# Altium integrated library National Semiconductor LDO.IntLib: 2675 symbols (part 63 of 65)
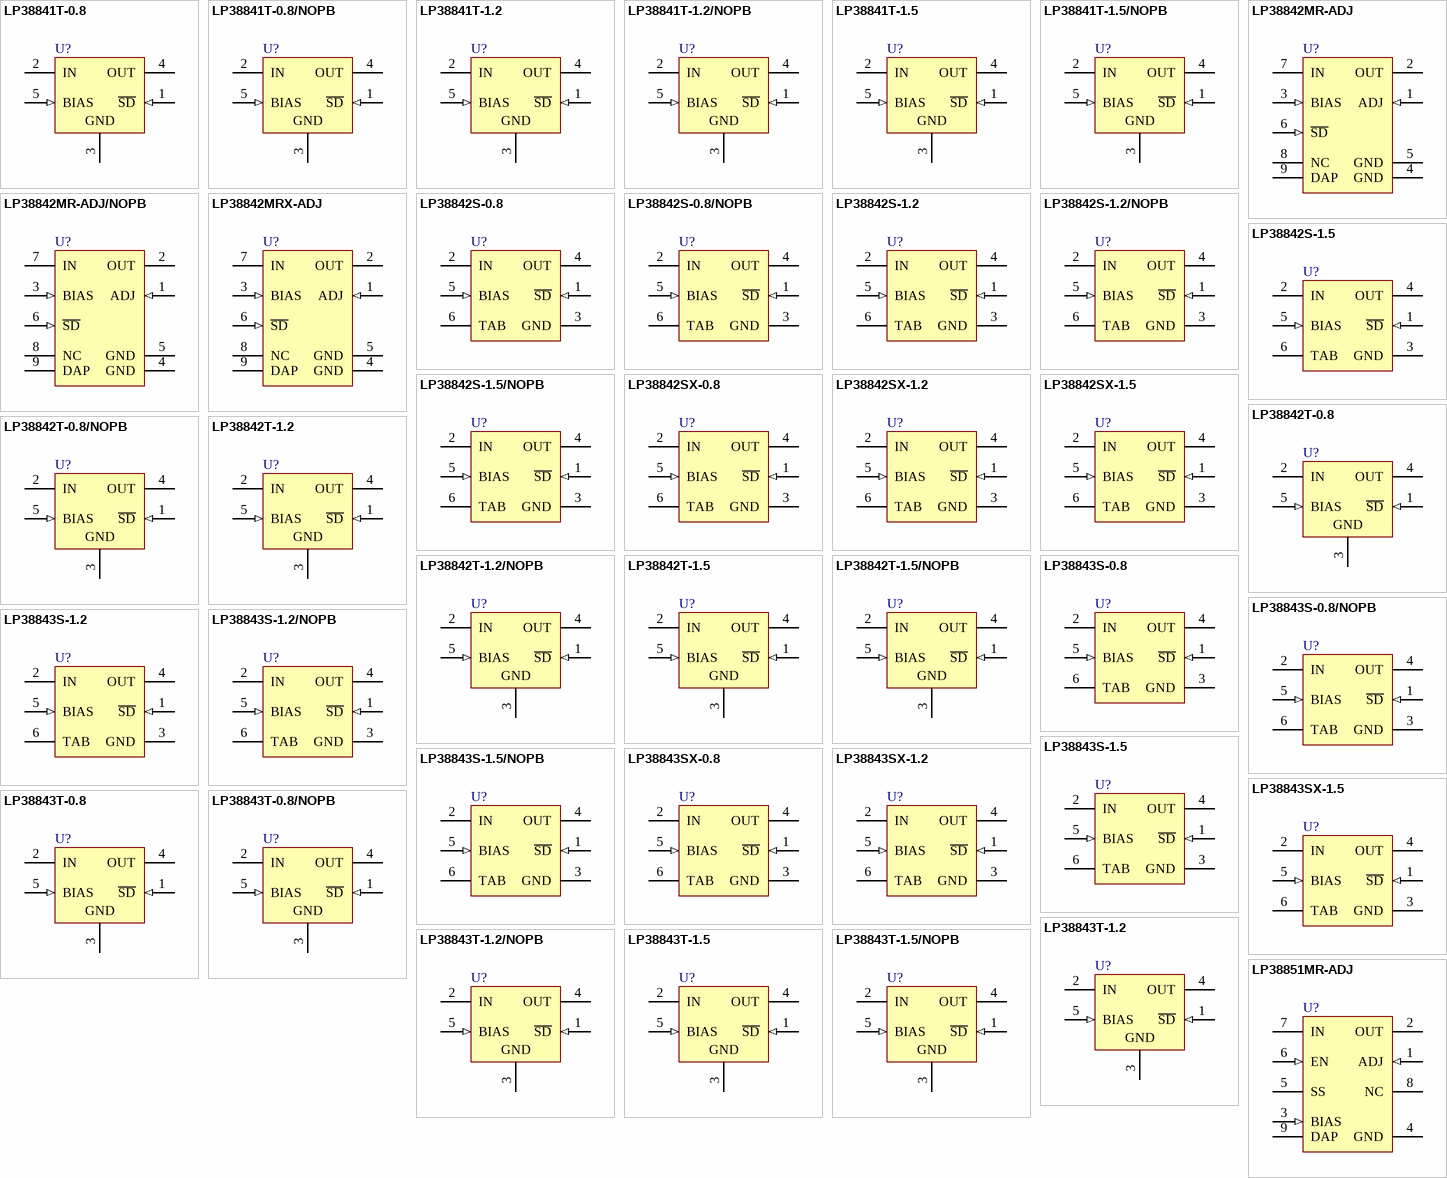
[diagram p129: symbols LP38841T-0.8 to LP38851MR-ADJ]

## LP38843S-1.5
designator U?
3A Fast-Response Ultra Low Dropout Linear Regulators, 5-pin TO-263; PartNumber: LP38843S-1.5; Manufacturer: National Semiconductor; PackageTopMarking: NSUZXYTTE#*LP38843S*-1.5; PowerWise: N; CompType: LDO IC; High-Reliability: Y; DatasheetVersion: Sep-2006; PackageVersion: revD, Apr-2005; PackageReference: TS5B; PackageDescription: TO-263, Molded, .400 x .390 x .180in, 5 Lead, .067in Pitch, Surface Mount; RoHS: N; PinCount: 5; Code_JEDEC: MO-169-AB; ComponentLink1Description: Manufacturer URL; ComponentLink1URL: http://www.national.com/; ComponentLink2Description: LP38843 Datasheet; ComponentLink2URL: http://www.national.com/ds/LP/LP38843.pdf; ComponentLink3Description: LP38843 Web Page; ComponentLink3URL: http://www.national.com/pf/LP/LP38843.html; ComponentLink4Description: TS5B Package Page; ComponentLink4URL: http://www.national.com/packaging/folders/ts5b.html
footprint TS5B_N (D2-PAK, 6-Leads, Body 8.6x10.2mm, Pitch 1.7mm, Lead Span 14.1mm, IPC Medium Density)
footprint TS5B_L (D2-PAK, 6-Leads, Body 8.6x10.2mm, Pitch 1.7mm, Lead Span 14.1mm, IPC High Density)
footprint TS5B_M (D2-PAK, 6-Leads, Body 8.6x10.2mm, Pitch 1.7mm, Lead Span 14.1mm, IPC Low Density)
pins: 1 ~{SD} (in), 2 IN (power), 3 GND (power), 4 OUT (power), 5 BIAS (in), 6 TAB (power)

## LP38843S-1.5/NOPB
designator U?
3A Fast-Response Ultra Low Dropout Linear Regulators, 5-pin TO-263, Pb-Free; PartNumber: LP38843S-1.5/NOPB; Manufacturer: National Semiconductor; PackageTopMarking: NSUZXYTTE#*LP38843S*-1.5; PowerWise: N; CompType: LDO IC; High-Reliability: Y; DatasheetVersion: Sep-2006; PackageVersion: revD, Apr-2005; PackageReference: TS5B; PackageDescription: TO-263, Molded, .400 x .390 x .180in, 5 Lead, .067in Pitch, Surface Mount; RoHS: Y; PinCount: 5; Code_JEDEC: MO-169-AB; ComponentLink1Description: Manufacturer URL; ComponentLink1URL: http://www.national.com/; ComponentLink2Description: LP38843 Datasheet; ComponentLink2URL: http://www.national.com/ds/LP/LP38843.pdf; ComponentLink3Description: LP38843 Web Page; ComponentLink3URL: http://www.national.com/pf/LP/LP38843.html; ComponentLink4Description: TS5B Package Page; ComponentLink4URL: http://www.national.com/packaging/folders/ts5b.html
footprint TS5B_N (D2-PAK, 6-Leads, Body 8.6x10.2mm, Pitch 1.7mm, Lead Span 14.1mm, IPC Medium Density)
footprint TS5B_L (D2-PAK, 6-Leads, Body 8.6x10.2mm, Pitch 1.7mm, Lead Span 14.1mm, IPC High Density)
footprint TS5B_M (D2-PAK, 6-Leads, Body 8.6x10.2mm, Pitch 1.7mm, Lead Span 14.1mm, IPC Low Density)
pins: 1 ~{SD} (in), 2 IN (power), 3 GND (power), 4 OUT (power), 5 BIAS (in), 6 TAB (power)

## LP38843SX-0.8
designator U?
3A Fast-Response Ultra Low Dropout Linear Regulators, 5-pin TO-263; PartNumber: LP38843SX-0.8; Manufacturer: National Semiconductor; PackageTopMarking: NSUZXYTTE#*LP38843S*-0.8; PowerWise: N; CompType: LDO IC; High-Reliability: Y; DatasheetVersion: Sep-2006; PackageVersion: revD, Apr-2005; PackageReference: TS5B; PackageDescription: TO-263, Molded, .400 x .390 x .180in, 5 Lead, .067in Pitch, Surface Mount; RoHS: N; PinCount: 5; Code_JEDEC: MO-169-AB; ComponentLink1Description: Manufacturer URL; ComponentLink1URL: http://www.national.com/; ComponentLink2Description: LP38843 Datasheet; ComponentLink2URL: http://www.national.com/ds/LP/LP38843.pdf; ComponentLink3Description: LP38843 Web Page; ComponentLink3URL: http://www.national.com/pf/LP/LP38843.html; ComponentLink4Description: TS5B Package Page; ComponentLink4URL: http://www.national.com/packaging/folders/ts5b.html
footprint TS5B_N (D2-PAK, 6-Leads, Body 8.6x10.2mm, Pitch 1.7mm, Lead Span 14.1mm, IPC Medium Density)
footprint TS5B_L (D2-PAK, 6-Leads, Body 8.6x10.2mm, Pitch 1.7mm, Lead Span 14.1mm, IPC High Density)
footprint TS5B_M (D2-PAK, 6-Leads, Body 8.6x10.2mm, Pitch 1.7mm, Lead Span 14.1mm, IPC Low Density)
pins: 1 ~{SD} (in), 2 IN (power), 3 GND (power), 4 OUT (power), 5 BIAS (in), 6 TAB (power)

## LP38843SX-1.2
designator U?
3A Fast-Response Ultra Low Dropout Linear Regulators, 5-pin TO-263; PartNumber: LP38843SX-1.2; Manufacturer: National Semiconductor; PackageTopMarking: NSUZXYTTE#*LP38843S*-1.2; PowerWise: N; CompType: LDO IC; High-Reliability: Y; DatasheetVersion: Sep-2006; PackageVersion: revD, Apr-2005; PackageReference: TS5B; PackageDescription: TO-263, Molded, .400 x .390 x .180in, 5 Lead, .067in Pitch, Surface Mount; RoHS: N; PinCount: 5; Code_JEDEC: MO-169-AB; ComponentLink1Description: Manufacturer URL; ComponentLink1URL: http://www.national.com/; ComponentLink2Description: LP38843 Datasheet; ComponentLink2URL: http://www.national.com/ds/LP/LP38843.pdf; ComponentLink3Description: LP38843 Web Page; ComponentLink3URL: http://www.national.com/pf/LP/LP38843.html; ComponentLink4Description: TS5B Package Page; ComponentLink4URL: http://www.national.com/packaging/folders/ts5b.html
footprint TS5B_N (D2-PAK, 6-Leads, Body 8.6x10.2mm, Pitch 1.7mm, Lead Span 14.1mm, IPC Medium Density)
footprint TS5B_L (D2-PAK, 6-Leads, Body 8.6x10.2mm, Pitch 1.7mm, Lead Span 14.1mm, IPC High Density)
footprint TS5B_M (D2-PAK, 6-Leads, Body 8.6x10.2mm, Pitch 1.7mm, Lead Span 14.1mm, IPC Low Density)
pins: 1 ~{SD} (in), 2 IN (power), 3 GND (power), 4 OUT (power), 5 BIAS (in), 6 TAB (power)

## LP38843SX-1.5
designator U?
3A Fast-Response Ultra Low Dropout Linear Regulators, 5-pin TO-263; PartNumber: LP38843SX-1.5; Manufacturer: National Semiconductor; PackageTopMarking: NSUZXYTTE#*LP38843S*-1.5; PowerWise: N; CompType: LDO IC; High-Reliability: Y; DatasheetVersion: Sep-2006; PackageVersion: revD, Apr-2005; PackageReference: TS5B; PackageDescription: TO-263, Molded, .400 x .390 x .180in, 5 Lead, .067in Pitch, Surface Mount; RoHS: N; PinCount: 5; Code_JEDEC: MO-169-AB; ComponentLink1Description: Manufacturer URL; ComponentLink1URL: http://www.national.com/; ComponentLink2Description: LP38843 Datasheet; ComponentLink2URL: http://www.national.com/ds/LP/LP38843.pdf; ComponentLink3Description: LP38843 Web Page; ComponentLink3URL: http://www.national.com/pf/LP/LP38843.html; ComponentLink4Description: TS5B Package Page; ComponentLink4URL: http://www.national.com/packaging/folders/ts5b.html
footprint TS5B_N (D2-PAK, 6-Leads, Body 8.6x10.2mm, Pitch 1.7mm, Lead Span 14.1mm, IPC Medium Density)
footprint TS5B_L (D2-PAK, 6-Leads, Body 8.6x10.2mm, Pitch 1.7mm, Lead Span 14.1mm, IPC High Density)
footprint TS5B_M (D2-PAK, 6-Leads, Body 8.6x10.2mm, Pitch 1.7mm, Lead Span 14.1mm, IPC Low Density)
pins: 1 ~{SD} (in), 2 IN (power), 3 GND (power), 4 OUT (power), 5 BIAS (in), 6 TAB (power)

## LP38843T-0.8
designator U?
3A Fast-Response Ultra Low Dropout Linear Regulators, 5-pin TO-220; PartNumber: LP38843T-0.8; Manufacturer: National Semiconductor; PackageTopMarking: NSUZXYTTE#*LP38843T*-0.8; PowerWise: N; CompType: LDO IC; High-Reliability: Y; DatasheetVersion: Sep-2006; PackageVersion: revJ, Jan-1992; PackageReference: T05A; PackageDescription: TO-220, Molded, 5 Lead, Straight; RoHS: N; PinCount: 5; Code_JEDEC: TO-220-AB; ComponentLink1Description: Manufacturer URL; ComponentLink1URL: http://www.national.com/; ComponentLink2Description: LP38843 Datasheet; ComponentLink2URL: http://www.national.com/ds/LP/LP38843.pdf; ComponentLink3Description: LP38843 Web Page; ComponentLink3URL: http://www.national.com/pf/LP/LP38843.html; ComponentLink4Description: T05A Package Page; ComponentLink4URL: http://www.national.com/packaging/folders/t05a.html
footprint T05A (TO, Thru-Hole, Vertical, Heatsink Mounted; 5 In-Line Leads; Pitch 1.70 mm)
pins: 1 ~{SD} (in), 2 IN (power), 3 GND (power), 4 OUT (power), 5 BIAS (in)

## LP38843T-0.8/NOPB
designator U?
3A Fast-Response Ultra Low Dropout Linear Regulators, 5-pin TO-220, Pb-Free; PartNumber: LP38843T-0.8/NOPB; Manufacturer: National Semiconductor; PackageTopMarking: NSUZXYTTE#*LP38843T*-0.8; PowerWise: N; CompType: LDO IC; High-Reliability: Y; DatasheetVersion: Sep-2006; PackageVersion: revJ, Jan-1992; PackageReference: T05A; PackageDescription: TO-220, Molded, 5 Lead, Straight; RoHS: Y; PinCount: 5; Code_JEDEC: TO-220-AB; ComponentLink1Description: Manufacturer URL; ComponentLink1URL: http://www.national.com/; ComponentLink2Description: LP38843 Datasheet; ComponentLink2URL: http://www.national.com/ds/LP/LP38843.pdf; ComponentLink3Description: LP38843 Web Page; ComponentLink3URL: http://www.national.com/pf/LP/LP38843.html; ComponentLink4Description: T05A Package Page; ComponentLink4URL: http://www.national.com/packaging/folders/t05a.html
footprint T05A (TO, Thru-Hole, Vertical, Heatsink Mounted; 5 In-Line Leads; Pitch 1.70 mm)
pins: 1 ~{SD} (in), 2 IN (power), 3 GND (power), 4 OUT (power), 5 BIAS (in)

## LP38843T-1.2
designator U?
3A Fast-Response Ultra Low Dropout Linear Regulators, 5-pin TO-220; PartNumber: LP38843T-1.2; Manufacturer: National Semiconductor; PackageTopMarking: NSUZXYTTE#*LP38843T*-1.2; PowerWise: N; CompType: LDO IC; High-Reliability: Y; DatasheetVersion: Sep-2006; PackageVersion: revJ, Jan-1992; PackageReference: T05A; PackageDescription: TO-220, Molded, 5 Lead, Straight; RoHS: N; PinCount: 5; Code_JEDEC: TO-220-AB; ComponentLink1Description: Manufacturer URL; ComponentLink1URL: http://www.national.com/; ComponentLink2Description: LP38843 Datasheet; ComponentLink2URL: http://www.national.com/ds/LP/LP38843.pdf; ComponentLink3Description: LP38843 Web Page; ComponentLink3URL: http://www.national.com/pf/LP/LP38843.html; ComponentLink4Description: T05A Package Page; ComponentLink4URL: http://www.national.com/packaging/folders/t05a.html
footprint T05A (TO, Thru-Hole, Vertical, Heatsink Mounted; 5 In-Line Leads; Pitch 1.70 mm)
pins: 1 ~{SD} (in), 2 IN (power), 3 GND (power), 4 OUT (power), 5 BIAS (in)

## LP38843T-1.2/NOPB
designator U?
3A Fast-Response Ultra Low Dropout Linear Regulators, 5-pin TO-220, Pb-Free; PartNumber: LP38843T-1.2/NOPB; Manufacturer: National Semiconductor; PackageTopMarking: NSUZXYTTE#*LP38843T*-1.2; PowerWise: N; CompType: LDO IC; High-Reliability: Y; DatasheetVersion: Sep-2006; PackageVersion: revJ, Jan-1992; PackageReference: T05A; PackageDescription: TO-220, Molded, 5 Lead, Straight; RoHS: Y; PinCount: 5; Code_JEDEC: TO-220-AB; ComponentLink1Description: Manufacturer URL; ComponentLink1URL: http://www.national.com/; ComponentLink2Description: LP38843 Datasheet; ComponentLink2URL: http://www.national.com/ds/LP/LP38843.pdf; ComponentLink3Description: LP38843 Web Page; ComponentLink3URL: http://www.national.com/pf/LP/LP38843.html; ComponentLink4Description: T05A Package Page; ComponentLink4URL: http://www.national.com/packaging/folders/t05a.html
footprint T05A (TO, Thru-Hole, Vertical, Heatsink Mounted; 5 In-Line Leads; Pitch 1.70 mm)
pins: 1 ~{SD} (in), 2 IN (power), 3 GND (power), 4 OUT (power), 5 BIAS (in)

## LP38843T-1.5
designator U?
3A Fast-Response Ultra Low Dropout Linear Regulators, 5-pin TO-220; PartNumber: LP38843T-1.5; Manufacturer: National Semiconductor; PackageTopMarking: NSUZXYTTE#*LP38843T*-1.5; PowerWise: N; CompType: LDO IC; High-Reliability: Y; DatasheetVersion: Sep-2006; PackageVersion: revJ, Jan-1992; PackageReference: T05A; PackageDescription: TO-220, Molded, 5 Lead, Straight; RoHS: N; PinCount: 5; Code_JEDEC: TO-220-AB; ComponentLink1Description: Manufacturer URL; ComponentLink1URL: http://www.national.com/; ComponentLink2Description: LP38843 Datasheet; ComponentLink2URL: http://www.national.com/ds/LP/LP38843.pdf; ComponentLink3Description: LP38843 Web Page; ComponentLink3URL: http://www.national.com/pf/LP/LP38843.html; ComponentLink4Description: T05A Package Page; ComponentLink4URL: http://www.national.com/packaging/folders/t05a.html
footprint T05A (TO, Thru-Hole, Vertical, Heatsink Mounted; 5 In-Line Leads; Pitch 1.70 mm)
pins: 1 ~{SD} (in), 2 IN (power), 3 GND (power), 4 OUT (power), 5 BIAS (in)

## LP38843T-1.5/NOPB
designator U?
3A Fast-Response Ultra Low Dropout Linear Regulators, 5-pin TO-220, Pb-Free; PartNumber: LP38843T-1.5/NOPB; Manufacturer: National Semiconductor; PackageTopMarking: NSUZXYTTE#*LP38843T*-1.5; PowerWise: N; CompType: LDO IC; High-Reliability: Y; DatasheetVersion: Sep-2006; PackageVersion: revJ, Jan-1992; PackageReference: T05A; PackageDescription: TO-220, Molded, 5 Lead, Straight; RoHS: Y; PinCount: 5; Code_JEDEC: TO-220-AB; ComponentLink1Description: Manufacturer URL; ComponentLink1URL: http://www.national.com/; ComponentLink2Description: LP38843 Datasheet; ComponentLink2URL: http://www.national.com/ds/LP/LP38843.pdf; ComponentLink3Description: LP38843 Web Page; ComponentLink3URL: http://www.national.com/pf/LP/LP38843.html; ComponentLink4Description: T05A Package Page; ComponentLink4URL: http://www.national.com/packaging/folders/t05a.html
footprint T05A (TO, Thru-Hole, Vertical, Heatsink Mounted; 5 In-Line Leads; Pitch 1.70 mm)
pins: 1 ~{SD} (in), 2 IN (power), 3 GND (power), 4 OUT (power), 5 BIAS (in)

## LP38851MR-ADJ
designator U?
800 mA Fast-Response High-Accuracy Adjustable LDO Linear Regulator with Enable and Soft-Start, 8-pin PSOP; PartNumber: LP38851MR-ADJ; Manufacturer: National Semiconductor; PackageTopMarking: NSXYTT*L38851*MRADJ; PowerWise: Y; CompType: LDO IC; DatasheetVersion: Jun-2007; PackageVersion: revB, Dec-2007; PackageReference: MRA08B; PackageDescription: Molded, PSOP .193 x .154 x .058in, 8 Lead, .050in Pitch, Large DAP; RoHS: Y; PinCount: 8; High-Reliability: Y; Code_JEDEC: MS-012-AA; ComponentLink1Description: Manufacturer URL; ComponentLink1URL: http://www.national.com/; ComponentLink2Description: LP38851 Datasheet; ComponentLink2URL: http://www.national.com/ds/LP/LP38851.pdf; ComponentLink3Description: LP38851 Web Page; ComponentLink3URL: http://www.national.com/pf/LP/LP38851.html; ComponentLink4Description: MRA08B Package Page; ComponentLink4URL: http://www.national.com/packaging/folders/mra08b.html
footprint MRA08B_N (SOIC, 8-Leads, Body 4.9x3.9mm, Pitch 1.27mm, Thermal Pad, IPC Medium Density)
footprint MRA08B_L (SOIC, 8-Leads, Body 4.9x3.9mm, Pitch 1.27mm, Thermal Pad, IPC High Density)
footprint MRA08B_M (SOIC, 8-Leads, Body 4.9x3.9mm, Pitch 1.27mm, Thermal Pad, IPC Low Density)
pins: 1 ADJ (in), 2 OUT (power), 3 BIAS (in), 4 GND (power), 5 SS, 6 EN (in), 7 IN (power), 8 NC, 9 DAP (power)

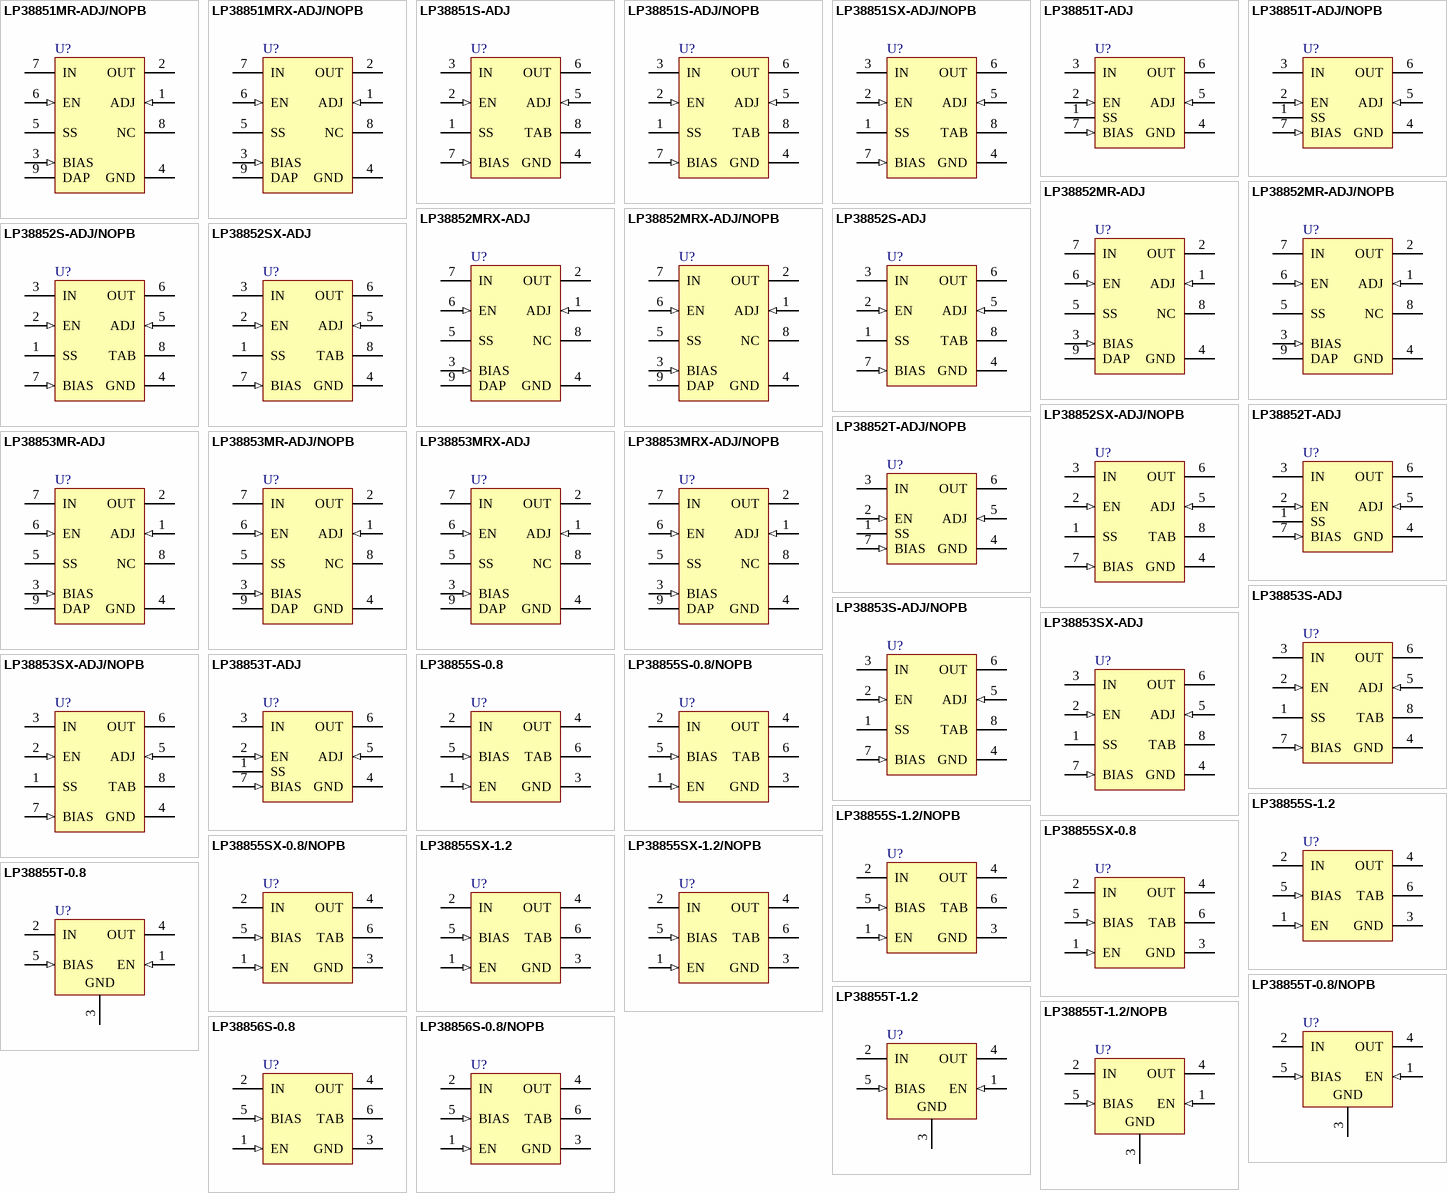
[diagram p65: symbols LP38851MR-ADJ/NOPB to LP38856S-0.8/NOPB]

## LP38851MR-ADJ/NOPB
designator U?
800 mA Fast-Response High-Accuracy Adjustable LDO Linear Regulator with Enable and Soft-Start, 8-pin PSOP, Pb-Free; PartNumber: LP38851MR-ADJ/NOPB; Manufacturer: National Semiconductor; PackageTopMarking: NSXYTT*L38851*MRADJ; PowerWise: Y; CompType: LDO IC; DatasheetVersion: Jun-2007; PackageVersion: revB, Dec-2007; PackageReference: MRA08B; PackageDescription: Molded, PSOP .193 x .154 x .058in, 8 Lead, .050in Pitch, Large DAP; RoHS: Y; PinCount: 8; High-Reliability: Y; Code_JEDEC: MS-012-AA; ComponentLink1Description: Manufacturer URL; ComponentLink1URL: http://www.national.com/; ComponentLink2Description: LP38851 Datasheet; ComponentLink2URL: http://www.national.com/ds/LP/LP38851.pdf; ComponentLink3Description: LP38851 Web Page; ComponentLink3URL: http://www.national.com/pf/LP/LP38851.html; ComponentLink4Description: MRA08B Package Page; ComponentLink4URL: http://www.national.com/packaging/folders/mra08b.html
footprint MRA08B_N (SOIC, 8-Leads, Body 4.9x3.9mm, Pitch 1.27mm, Thermal Pad, IPC Medium Density)
footprint MRA08B_L (SOIC, 8-Leads, Body 4.9x3.9mm, Pitch 1.27mm, Thermal Pad, IPC High Density)
footprint MRA08B_M (SOIC, 8-Leads, Body 4.9x3.9mm, Pitch 1.27mm, Thermal Pad, IPC Low Density)
pins: 1 ADJ (in), 2 OUT (power), 3 BIAS (in), 4 GND (power), 5 SS, 6 EN (in), 7 IN (power), 8 NC, 9 DAP (power)

## LP38851MRX-ADJ/NOPB
designator U?
800 mA Fast-Response High-Accuracy Adjustable LDO Linear Regulator with Enable and Soft-Start, 8-pin PSOP, Pb-Free; PartNumber: LP38851MRX-ADJ/NOPB; Manufacturer: National Semiconductor; PackageTopMarking: NSXYTT*L38851*MRADJ; PowerWise: Y; CompType: LDO IC; DatasheetVersion: Jun-2007; PackageVersion: revB, Dec-2007; PackageReference: MRA08B; PackageDescription: Molded, PSOP .193 x .154 x .058in, 8 Lead, .050in Pitch, Large DAP; RoHS: Y; PinCount: 8; High-Reliability: Y; Code_JEDEC: MS-012-AA; ComponentLink1Description: Manufacturer URL; ComponentLink1URL: http://www.national.com/; ComponentLink2Description: LP38851 Datasheet; ComponentLink2URL: http://www.national.com/ds/LP/LP38851.pdf; ComponentLink3Description: LP38851 Web Page; ComponentLink3URL: http://www.national.com/pf/LP/LP38851.html; ComponentLink4Description: MRA08B Package Page; ComponentLink4URL: http://www.national.com/packaging/folders/mra08b.html
footprint MRA08B_N (SOIC, 8-Leads, Body 4.9x3.9mm, Pitch 1.27mm, Thermal Pad, IPC Medium Density)
footprint MRA08B_L (SOIC, 8-Leads, Body 4.9x3.9mm, Pitch 1.27mm, Thermal Pad, IPC High Density)
footprint MRA08B_M (SOIC, 8-Leads, Body 4.9x3.9mm, Pitch 1.27mm, Thermal Pad, IPC Low Density)
pins: 1 ADJ (in), 2 OUT (power), 3 BIAS (in), 4 GND (power), 5 SS, 6 EN (in), 7 IN (power), 8 NC, 9 DAP (power)

## LP38851S-ADJ
designator U?
800 mA Fast-Response High-Accuracy Adjustable LDO Linear Regulator with Enable and Soft-Start, 7-pin TO-263; PartNumber: LP38851S-ADJ; Manufacturer: National Semiconductor; PackageTopMarking: NSUZXYTTE#*LP38851S*-ADJ; PowerWise: Y; CompType: LDO IC; DatasheetVersion: Jun-2007; PackageVersion: revE, Jul-2003; PackageReference: TS7B; PackageDescription: TO-263, Molded, .400 x .390 x .180in Body, 7 Lead, .050in Pitch, Surface Mount; RoHS: Y; PinCount: 7; High-Reliability: Y; Code_JEDEC: MO-169-AC; ComponentLink1Description: Manufacturer URL; ComponentLink1URL: http://www.national.com/; ComponentLink2Description: LP38851 Datasheet; ComponentLink2URL: http://www.national.com/ds/LP/LP38851.pdf; ComponentLink3Description: LP38851 Web Page; ComponentLink3URL: http://www.national.com/pf/LP/LP38851.html; ComponentLink4Description: TS7B Package Page; ComponentLink4URL: http://www.national.com/packaging/folders/ts7b.html
footprint TS7B_N (D2-PAK, 8-Leads, Body 8.6x10.2mm, Pitch 1.27mm, Lead Span 14.1mm, IPC Medium Density)
footprint TS7B_L (D2-PAK, 8-Leads, Body 8.6x10.2mm, Pitch 1.27mm, Lead Span 14.1mm, IPC High Density)
footprint TS7B_M (D2-PAK, 8-Leads, Body 8.6x10.2mm, Pitch 1.27mm, Lead Span 14.1mm, IPC Low Density)
pins: 1 SS, 2 EN (in), 3 IN (power), 4 GND (power), 5 ADJ (in), 6 OUT (power), 7 BIAS (in), 8 TAB (power)

## LP38851S-ADJ/NOPB
designator U?
800 mA Fast-Response High-Accuracy Adjustable LDO Linear Regulator with Enable and Soft-Start, 7-pin TO-263, Pb-Free; PartNumber: LP38851S-ADJ/NOPB; Manufacturer: National Semiconductor; PackageTopMarking: NSUZXYTTE#*LP38851S*-ADJ; PowerWise: Y; CompType: LDO IC; DatasheetVersion: Jun-2007; PackageVersion: revE, Jul-2003; PackageReference: TS7B; PackageDescription: TO-263, Molded, .400 x .390 x .180in Body, 7 Lead, .050in Pitch, Surface Mount; RoHS: Y; PinCount: 7; High-Reliability: Y; Code_JEDEC: MO-169-AC; ComponentLink1Description: Manufacturer URL; ComponentLink1URL: http://www.national.com/; ComponentLink2Description: LP38851 Datasheet; ComponentLink2URL: http://www.national.com/ds/LP/LP38851.pdf; ComponentLink3Description: LP38851 Web Page; ComponentLink3URL: http://www.national.com/pf/LP/LP38851.html; ComponentLink4Description: TS7B Package Page; ComponentLink4URL: http://www.national.com/packaging/folders/ts7b.html
footprint TS7B_N (D2-PAK, 8-Leads, Body 8.6x10.2mm, Pitch 1.27mm, Lead Span 14.1mm, IPC Medium Density)
footprint TS7B_L (D2-PAK, 8-Leads, Body 8.6x10.2mm, Pitch 1.27mm, Lead Span 14.1mm, IPC High Density)
footprint TS7B_M (D2-PAK, 8-Leads, Body 8.6x10.2mm, Pitch 1.27mm, Lead Span 14.1mm, IPC Low Density)
pins: 1 SS, 2 EN (in), 3 IN (power), 4 GND (power), 5 ADJ (in), 6 OUT (power), 7 BIAS (in), 8 TAB (power)

## LP38851SX-ADJ/NOPB
designator U?
800 mA Fast-Response High-Accuracy Adjustable LDO Linear Regulator with Enable and Soft-Start, 7-pin TO-263, Pb-Free; PartNumber: LP38851SX-ADJ/NOPB; Manufacturer: National Semiconductor; PackageTopMarking: NSUZXYTTE#*LP38851S*-ADJ; PowerWise: Y; CompType: LDO IC; DatasheetVersion: Jun-2007; PackageVersion: revE, Jul-2003; PackageReference: TS7B; PackageDescription: TO-263, Molded, .400 x .390 x .180in Body, 7 Lead, .050in Pitch, Surface Mount; RoHS: Y; PinCount: 7; High-Reliability: Y; Code_JEDEC: MO-169-AC; ComponentLink1Description: Manufacturer URL; ComponentLink1URL: http://www.national.com/; ComponentLink2Description: LP38851 Datasheet; ComponentLink2URL: http://www.national.com/ds/LP/LP38851.pdf; ComponentLink3Description: LP38851 Web Page; ComponentLink3URL: http://www.national.com/pf/LP/LP38851.html; ComponentLink4Description: TS7B Package Page; ComponentLink4URL: http://www.national.com/packaging/folders/ts7b.html
footprint TS7B_N (D2-PAK, 8-Leads, Body 8.6x10.2mm, Pitch 1.27mm, Lead Span 14.1mm, IPC Medium Density)
footprint TS7B_L (D2-PAK, 8-Leads, Body 8.6x10.2mm, Pitch 1.27mm, Lead Span 14.1mm, IPC High Density)
footprint TS7B_M (D2-PAK, 8-Leads, Body 8.6x10.2mm, Pitch 1.27mm, Lead Span 14.1mm, IPC Low Density)
pins: 1 SS, 2 EN (in), 3 IN (power), 4 GND (power), 5 ADJ (in), 6 OUT (power), 7 BIAS (in), 8 TAB (power)

## LP38851T-ADJ
designator U?
800 mA Fast-Response High-Accuracy Adjustable LDO Linear Regulator with Enable and Soft-Start, 7-pin TO-220; PartNumber: LP38851T-ADJ; Manufacturer: National Semiconductor; PackageTopMarking: NSUZXYTTE#*LP38851T*-ADJ; PowerWise: Y; CompType: LDO IC; DatasheetVersion: Jun-2007; PackageVersion: revC, Apr-1999; PackageReference: TA07B; PackageDescription: TO-220, Molded, .400 x .590 x .180in Body, 7 Lead, .050in Pitch, Staggered; RoHS: Y; PinCount: 7; High-Reliability: Y; Code_JEDEC: TO-220-AB; ComponentLink1Description: Manufacturer URL; ComponentLink1URL: http://www.national.com/; ComponentLink2Description: LP38851 Datasheet; ComponentLink2URL: http://www.national.com/ds/LP/LP38851.pdf; ComponentLink3Description: LP38851 Web Page; ComponentLink3URL: http://www.national.com/pf/LP/LP38851.html; ComponentLink4Description: TA07B Package Page; ComponentLink4URL: http://www.national.com/packaging/folders/ta07b.html
footprint TA07B (TO, Thru-Hole, Vertical, Heatsink Mounted; 7 Bent Staggered Leads; Body 10.2x8.7x4.6mm, Pitch 1.27 mm)
pins: 1 SS, 2 EN (in), 3 IN (power), 4 GND (power), 5 ADJ (in), 6 OUT (power), 7 BIAS (in)

## LP38851T-ADJ/NOPB
designator U?
800 mA Fast-Response High-Accuracy Adjustable LDO Linear Regulator with Enable and Soft-Start, 7-pin TO-220, Pb-Free; PartNumber: LP38851T-ADJ/NOPB; Manufacturer: National Semiconductor; PackageTopMarking: NSUZXYTTE#*LP38851T*-ADJ; PowerWise: Y; CompType: LDO IC; DatasheetVersion: Jun-2007; PackageVersion: revC, Apr-1999; PackageReference: TA07B; PackageDescription: TO-220, Molded, .400 x .590 x .180in Body, 7 Lead, .050in Pitch, Staggered; RoHS: Y; PinCount: 7; High-Reliability: Y; Code_JEDEC: TO-220-AB; ComponentLink1Description: Manufacturer URL; ComponentLink1URL: http://www.national.com/; ComponentLink2Description: LP38851 Datasheet; ComponentLink2URL: http://www.national.com/ds/LP/LP38851.pdf; ComponentLink3Description: LP38851 Web Page; ComponentLink3URL: http://www.national.com/pf/LP/LP38851.html; ComponentLink4Description: TA07B Package Page; ComponentLink4URL: http://www.national.com/packaging/folders/ta07b.html
footprint TA07B (TO, Thru-Hole, Vertical, Heatsink Mounted; 7 Bent Staggered Leads; Body 10.2x8.7x4.6mm, Pitch 1.27 mm)
pins: 1 SS, 2 EN (in), 3 IN (power), 4 GND (power), 5 ADJ (in), 6 OUT (power), 7 BIAS (in)

## LP38852MR-ADJ
designator U?
1.5A Fast-Response High-Accuracy Adjustable LDO Linear Regulator with Enable and Soft-Start, 8-pin PSOP; PartNumber: LP38852MR-ADJ; Manufacturer: National Semiconductor; PackageTopMarking: NSXYTT*L38852*MRADJ; PowerWise: Y; CompType: LDO IC; DatasheetVersion: Jan-2007; PackageVersion: revB, Dec-2007; PackageReference: MRA08B; PackageDescription: Molded, PSOP .193 x .154 x .058in, 8 Lead, .050in Pitch, Large DAP; RoHS: N; PinCount: 8; High-Reliability: Y; Code_JEDEC: MS-012-AA; ComponentLink1Description: Manufacturer URL; ComponentLink1URL: http://www.national.com/; ComponentLink2Description: LP38852 Datasheet; ComponentLink2URL: http://www.national.com/ds/LP/LP38852.pdf; ComponentLink3Description: LP38852 Web Page; ComponentLink3URL: http://www.national.com/pf/LP/LP38852.html; ComponentLink4Description: MRA08B Package Page; ComponentLink4URL: http://www.national.com/packaging/folders/mra08b.html
footprint MRA08B_N (SOIC, 8-Leads, Body 4.9x3.9mm, Pitch 1.27mm, Thermal Pad, IPC Medium Density)
footprint MRA08B_L (SOIC, 8-Leads, Body 4.9x3.9mm, Pitch 1.27mm, Thermal Pad, IPC High Density)
footprint MRA08B_M (SOIC, 8-Leads, Body 4.9x3.9mm, Pitch 1.27mm, Thermal Pad, IPC Low Density)
pins: 1 ADJ (in), 2 OUT (power), 3 BIAS (in), 4 GND (power), 5 SS, 6 EN (in), 7 IN (power), 8 NC, 9 DAP (power)

## LP38852MR-ADJ/NOPB
designator U?
1.5A Fast-Response High-Accuracy Adjustable LDO Linear Regulator with Enable and Soft-Start, 8-pin PSOP, Pb-Free; PartNumber: LP38852MR-ADJ/NOPB; Manufacturer: National Semiconductor; PackageTopMarking: NSXYTT*L38852*MRADJ; PowerWise: Y; CompType: LDO IC; DatasheetVersion: Jan-2007; PackageVersion: revB, Dec-2007; PackageReference: MRA08B; PackageDescription: Molded, PSOP .193 x .154 x .058in, 8 Lead, .050in Pitch, Large DAP; RoHS: Y; PinCount: 8; High-Reliability: Y; Code_JEDEC: MS-012-AA; ComponentLink1Description: Manufacturer URL; ComponentLink1URL: http://www.national.com/; ComponentLink2Description: LP38852 Datasheet; ComponentLink2URL: http://www.national.com/ds/LP/LP38852.pdf; ComponentLink3Description: LP38852 Web Page; ComponentLink3URL: http://www.national.com/pf/LP/LP38852.html; ComponentLink4Description: MRA08B Package Page; ComponentLink4URL: http://www.national.com/packaging/folders/mra08b.html
footprint MRA08B_N (SOIC, 8-Leads, Body 4.9x3.9mm, Pitch 1.27mm, Thermal Pad, IPC Medium Density)
footprint MRA08B_L (SOIC, 8-Leads, Body 4.9x3.9mm, Pitch 1.27mm, Thermal Pad, IPC High Density)
footprint MRA08B_M (SOIC, 8-Leads, Body 4.9x3.9mm, Pitch 1.27mm, Thermal Pad, IPC Low Density)
pins: 1 ADJ (in), 2 OUT (power), 3 BIAS (in), 4 GND (power), 5 SS, 6 EN (in), 7 IN (power), 8 NC, 9 DAP (power)

## LP38852MRX-ADJ
designator U?
1.5A Fast-Response High-Accuracy Adjustable LDO Linear Regulator with Enable and Soft-Start, 8-pin PSOP; PartNumber: LP38852MRX-ADJ; Manufacturer: National Semiconductor; PackageTopMarking: NSXYTT*L38852*MRADJ; PowerWise: Y; CompType: LDO IC; DatasheetVersion: Jan-2007; PackageVersion: revB, Dec-2007; PackageReference: MRA08B; PackageDescription: Molded, PSOP .193 x .154 x .058in, 8 Lead, .050in Pitch, Large DAP; RoHS: N; PinCount: 8; High-Reliability: Y; Code_JEDEC: MS-012-AA; ComponentLink1Description: Manufacturer URL; ComponentLink1URL: http://www.national.com/; ComponentLink2Description: LP38852 Datasheet; ComponentLink2URL: http://www.national.com/ds/LP/LP38852.pdf; ComponentLink3Description: LP38852 Web Page; ComponentLink3URL: http://www.national.com/pf/LP/LP38852.html; ComponentLink4Description: MRA08B Package Page; ComponentLink4URL: http://www.national.com/packaging/folders/mra08b.html
footprint MRA08B_N (SOIC, 8-Leads, Body 4.9x3.9mm, Pitch 1.27mm, Thermal Pad, IPC Medium Density)
footprint MRA08B_L (SOIC, 8-Leads, Body 4.9x3.9mm, Pitch 1.27mm, Thermal Pad, IPC High Density)
footprint MRA08B_M (SOIC, 8-Leads, Body 4.9x3.9mm, Pitch 1.27mm, Thermal Pad, IPC Low Density)
pins: 1 ADJ (in), 2 OUT (power), 3 BIAS (in), 4 GND (power), 5 SS, 6 EN (in), 7 IN (power), 8 NC, 9 DAP (power)

## LP38852MRX-ADJ/NOPB
designator U?
1.5A Fast-Response High-Accuracy Adjustable LDO Linear Regulator with Enable and Soft-Start, 8-pin PSOP, Pb-Free; PartNumber: LP38852MRX-ADJ/NOPB; Manufacturer: National Semiconductor; PackageTopMarking: NSXYTT*L38852*MRADJ; PowerWise: Y; CompType: LDO IC; DatasheetVersion: Jan-2007; PackageVersion: revB, Dec-2007; PackageReference: MRA08B; PackageDescription: Molded, PSOP .193 x .154 x .058in, 8 Lead, .050in Pitch, Large DAP; RoHS: Y; PinCount: 8; High-Reliability: Y; Code_JEDEC: MS-012-AA; ComponentLink1Description: Manufacturer URL; ComponentLink1URL: http://www.national.com/; ComponentLink2Description: LP38852 Datasheet; ComponentLink2URL: http://www.national.com/ds/LP/LP38852.pdf; ComponentLink3Description: LP38852 Web Page; ComponentLink3URL: http://www.national.com/pf/LP/LP38852.html; ComponentLink4Description: MRA08B Package Page; ComponentLink4URL: http://www.national.com/packaging/folders/mra08b.html
footprint MRA08B_N (SOIC, 8-Leads, Body 4.9x3.9mm, Pitch 1.27mm, Thermal Pad, IPC Medium Density)
footprint MRA08B_L (SOIC, 8-Leads, Body 4.9x3.9mm, Pitch 1.27mm, Thermal Pad, IPC High Density)
footprint MRA08B_M (SOIC, 8-Leads, Body 4.9x3.9mm, Pitch 1.27mm, Thermal Pad, IPC Low Density)
pins: 1 ADJ (in), 2 OUT (power), 3 BIAS (in), 4 GND (power), 5 SS, 6 EN (in), 7 IN (power), 8 NC, 9 DAP (power)

## LP38852S-ADJ
designator U?
1.5A Fast-Response High-Accuracy Adjustable LDO Linear Regulator with Enable and Soft-Start, 7-pin TO-263; PartNumber: LP38852S-ADJ; Manufacturer: National Semiconductor; PackageTopMarking: NSUZXYTTE#*LP38852S*-ADJ; PowerWise: Y; CompType: LDO IC; DatasheetVersion: Jan-2007; PackageVersion: revE, Jul-2003; PackageReference: TS7B; PackageDescription: TO-263, Molded, .400 x .390 x .180in Body, 7 Lead, .050in Pitch, Surface Mount; RoHS: N; PinCount: 7; High-Reliability: Y; Code_JEDEC: MO-169-AC; ComponentLink1Description: Manufacturer URL; ComponentLink1URL: http://www.national.com/; ComponentLink2Description: LP38852 Datasheet; ComponentLink2URL: http://www.national.com/ds/LP/LP38852.pdf; ComponentLink3Description: LP38852 Web Page; ComponentLink3URL: http://www.national.com/pf/LP/LP38852.html; ComponentLink4Description: TS7B Package Page; ComponentLink4URL: http://www.national.com/packaging/folders/ts7b.html
footprint TS7B_N (D2-PAK, 8-Leads, Body 8.6x10.2mm, Pitch 1.27mm, Lead Span 14.1mm, IPC Medium Density)
footprint TS7B_L (D2-PAK, 8-Leads, Body 8.6x10.2mm, Pitch 1.27mm, Lead Span 14.1mm, IPC High Density)
footprint TS7B_M (D2-PAK, 8-Leads, Body 8.6x10.2mm, Pitch 1.27mm, Lead Span 14.1mm, IPC Low Density)
pins: 1 SS, 2 EN (in), 3 IN (power), 4 GND (power), 5 ADJ (in), 6 OUT (power), 7 BIAS (in), 8 TAB (power)

## LP38852S-ADJ/NOPB
designator U?
1.5A Fast-Response High-Accuracy Adjustable LDO Linear Regulator with Enable and Soft-Start, 7-pin TO-263, Pb-Free; PartNumber: LP38852S-ADJ/NOPB; Manufacturer: National Semiconductor; PackageTopMarking: NSUZXYTTE#*LP38852S*-ADJ; PowerWise: Y; CompType: LDO IC; DatasheetVersion: Jan-2007; PackageVersion: revE, Jul-2003; PackageReference: TS7B; PackageDescription: TO-263, Molded, .400 x .390 x .180in Body, 7 Lead, .050in Pitch, Surface Mount; RoHS: Y; PinCount: 7; High-Reliability: Y; Code_JEDEC: MO-169-AC; ComponentLink1Description: Manufacturer URL; ComponentLink1URL: http://www.national.com/; ComponentLink2Description: LP38852 Datasheet; ComponentLink2URL: http://www.national.com/ds/LP/LP38852.pdf; ComponentLink3Description: LP38852 Web Page; ComponentLink3URL: http://www.national.com/pf/LP/LP38852.html; ComponentLink4Description: TS7B Package Page; ComponentLink4URL: http://www.national.com/packaging/folders/ts7b.html
footprint TS7B_N (D2-PAK, 8-Leads, Body 8.6x10.2mm, Pitch 1.27mm, Lead Span 14.1mm, IPC Medium Density)
footprint TS7B_L (D2-PAK, 8-Leads, Body 8.6x10.2mm, Pitch 1.27mm, Lead Span 14.1mm, IPC High Density)
footprint TS7B_M (D2-PAK, 8-Leads, Body 8.6x10.2mm, Pitch 1.27mm, Lead Span 14.1mm, IPC Low Density)
pins: 1 SS, 2 EN (in), 3 IN (power), 4 GND (power), 5 ADJ (in), 6 OUT (power), 7 BIAS (in), 8 TAB (power)

## LP38852SX-ADJ
designator U?
1.5A Fast-Response High-Accuracy Adjustable LDO Linear Regulator with Enable and Soft-Start, 7-pin TO-263; PartNumber: LP38852SX-ADJ; Manufacturer: National Semiconductor; PackageTopMarking: NSUZXYTTE#*LP38852S*-ADJ; PowerWise: Y; CompType: LDO IC; DatasheetVersion: Jan-2007; PackageVersion: revE, Jul-2003; PackageReference: TS7B; PackageDescription: TO-263, Molded, .400 x .390 x .180in Body, 7 Lead, .050in Pitch, Surface Mount; RoHS: N; PinCount: 7; High-Reliability: Y; Code_JEDEC: MO-169-AC; ComponentLink1Description: Manufacturer URL; ComponentLink1URL: http://www.national.com/; ComponentLink2Description: LP38852 Datasheet; ComponentLink2URL: http://www.national.com/ds/LP/LP38852.pdf; ComponentLink3Description: LP38852 Web Page; ComponentLink3URL: http://www.national.com/pf/LP/LP38852.html; ComponentLink4Description: TS7B Package Page; ComponentLink4URL: http://www.national.com/packaging/folders/ts7b.html
footprint TS7B_N (D2-PAK, 8-Leads, Body 8.6x10.2mm, Pitch 1.27mm, Lead Span 14.1mm, IPC Medium Density)
footprint TS7B_L (D2-PAK, 8-Leads, Body 8.6x10.2mm, Pitch 1.27mm, Lead Span 14.1mm, IPC High Density)
footprint TS7B_M (D2-PAK, 8-Leads, Body 8.6x10.2mm, Pitch 1.27mm, Lead Span 14.1mm, IPC Low Density)
pins: 1 SS, 2 EN (in), 3 IN (power), 4 GND (power), 5 ADJ (in), 6 OUT (power), 7 BIAS (in), 8 TAB (power)

## LP38852SX-ADJ/NOPB
designator U?
1.5A Fast-Response High-Accuracy Adjustable LDO Linear Regulator with Enable and Soft-Start, 7-pin TO-263, Pb-Free; PartNumber: LP38852SX-ADJ/NOPB; Manufacturer: National Semiconductor; PackageTopMarking: NSUZXYTTE#*LP38852S*-ADJ; PowerWise: Y; CompType: LDO IC; DatasheetVersion: Jan-2007; PackageVersion: revE, Jul-2003; PackageReference: TS7B; PackageDescription: TO-263, Molded, .400 x .390 x .180in Body, 7 Lead, .050in Pitch, Surface Mount; RoHS: Y; PinCount: 7; High-Reliability: Y; Code_JEDEC: MO-169-AC; ComponentLink1Description: Manufacturer URL; ComponentLink1URL: http://www.national.com/; ComponentLink2Description: LP38852 Datasheet; ComponentLink2URL: http://www.national.com/ds/LP/LP38852.pdf; ComponentLink3Description: LP38852 Web Page; ComponentLink3URL: http://www.national.com/pf/LP/LP38852.html; ComponentLink4Description: TS7B Package Page; ComponentLink4URL: http://www.national.com/packaging/folders/ts7b.html
footprint TS7B_N (D2-PAK, 8-Leads, Body 8.6x10.2mm, Pitch 1.27mm, Lead Span 14.1mm, IPC Medium Density)
footprint TS7B_L (D2-PAK, 8-Leads, Body 8.6x10.2mm, Pitch 1.27mm, Lead Span 14.1mm, IPC High Density)
footprint TS7B_M (D2-PAK, 8-Leads, Body 8.6x10.2mm, Pitch 1.27mm, Lead Span 14.1mm, IPC Low Density)
pins: 1 SS, 2 EN (in), 3 IN (power), 4 GND (power), 5 ADJ (in), 6 OUT (power), 7 BIAS (in), 8 TAB (power)

## LP38852T-ADJ
designator U?
1.5A Fast-Response High-Accuracy Adjustable LDO Linear Regulator with Enable and Soft-Start, 7-pin TO-220; PartNumber: LP38852T-ADJ; Manufacturer: National Semiconductor; PackageTopMarking: NSUZXYTTE#*LP38852T*-ADJ; PowerWise: Y; CompType: LDO IC; DatasheetVersion: Jan-2007; PackageVersion: revA, Sep-1992; PackageReference: TA07A; PackageDescription: TO-220, Molded, 7 Lead, Straight; RoHS: N; PinCount: 7; High-Reliability: Y; ComponentLink1Description: Manufacturer URL; ComponentLink1URL: http://www.national.com/; ComponentLink2Description: LP38852 Datasheet; ComponentLink2URL: http://www.national.com/ds/LP/LP38852.pdf; ComponentLink3Description: LP38852 Web Page; ComponentLink3URL: http://www.national.com/pf/LP/LP38852.html; ComponentLink4Description: TA07B Package Page; ComponentLink4URL: http://www.national.com/packaging/folders/ta07b.html
footprint TA07A (TO, Thru-Hole, Vertical, Heatsink Mounted; 7 In-Line Leads; Pitch 1.27 mm)
pins: 1 SS, 2 EN (in), 3 IN (power), 4 GND (power), 5 ADJ (in), 6 OUT (power), 7 BIAS (in)

## LP38852T-ADJ/NOPB
designator U?
1.5A Fast-Response High-Accuracy Adjustable LDO Linear Regulator with Enable and Soft-Start, 7-pin TO-220, Pb-Free; PartNumber: LP38852T-ADJ/NOPB; Manufacturer: National Semiconductor; PackageTopMarking: NSUZXYTTE#*LP38852T*-ADJ; PowerWise: Y; CompType: LDO IC; DatasheetVersion: Jan-2007; PackageVersion: revA, Sep-1992; PackageReference: TA07A; PackageDescription: TO-220, Molded, 7 Lead, Straight; RoHS: Y; PinCount: 7; High-Reliability: Y; ComponentLink1Description: Manufacturer URL; ComponentLink1URL: http://www.national.com/; ComponentLink2Description: LP38852 Datasheet; ComponentLink2URL: http://www.national.com/ds/LP/LP38852.pdf; ComponentLink3Description: LP38852 Web Page; ComponentLink3URL: http://www.national.com/pf/LP/LP38852.html; ComponentLink4Description: TA07B Package Page; ComponentLink4URL: http://www.national.com/packaging/folders/ta07b.html
footprint TA07A (TO, Thru-Hole, Vertical, Heatsink Mounted; 7 In-Line Leads; Pitch 1.27 mm)
pins: 1 SS, 2 EN (in), 3 IN (power), 4 GND (power), 5 ADJ (in), 6 OUT (power), 7 BIAS (in)

## LP38853MR-ADJ
designator U?
3A Fast-Response High-Accuracy Adjustable LDO Linear Regulator with Enable and Soft-Start, 8-pin PSOP; PartNumber: LP38853MR-ADJ; Manufacturer: National Semiconductor; PackageTopMarking: NSXYTT*L38853*MRADJ; PowerWise: Y; CompType: LDO IC; DatasheetVersion: Feb-2008; PackageVersion: revB, Dec-2007; PackageReference: MRA08B; PackageDescription: Molded, PSOP .193 x .154 x .058in, 8 Lead, .050in Pitch, Large DAP; RoHS: N; PinCount: 8; High-Reliability: Y; Code_JEDEC: MS-012-AA; ComponentLink1Description: Manufacturer URL; ComponentLink1URL: http://www.national.com/; ComponentLink2Description: LP38853 Datasheet; ComponentLink2URL: http://www.national.com/ds/LP/LP38853.pdf; ComponentLink3Description: LP38853 Web Page; ComponentLink3URL: http://www.national.com/pf/LP/LP38853.html; ComponentLink4Description: MRA08B Package Page; ComponentLink4URL: http://www.national.com/packaging/folders/mra08b.html
footprint MRA08B_N (SOIC, 8-Leads, Body 4.9x3.9mm, Pitch 1.27mm, Thermal Pad, IPC Medium Density)
footprint MRA08B_L (SOIC, 8-Leads, Body 4.9x3.9mm, Pitch 1.27mm, Thermal Pad, IPC High Density)
footprint MRA08B_M (SOIC, 8-Leads, Body 4.9x3.9mm, Pitch 1.27mm, Thermal Pad, IPC Low Density)
pins: 1 ADJ (in), 2 OUT (power), 3 BIAS (in), 4 GND (power), 5 SS, 6 EN (in), 7 IN (power), 8 NC, 9 DAP (power)

## LP38853MR-ADJ/NOPB
designator U?
3A Fast-Response High-Accuracy Adjustable LDO Linear Regulator with Enable and Soft-Start, 8-pin PSOP, Pb-Free; PartNumber: LP38853MR-ADJ/NOPB; Manufacturer: National Semiconductor; PackageTopMarking: NSXYTT*L38853*MRADJ; PowerWise: Y; CompType: LDO IC; DatasheetVersion: Feb-2008; PackageVersion: revB, Dec-2007; PackageReference: MRA08B; PackageDescription: Molded, PSOP .193 x .154 x .058in, 8 Lead, .050in Pitch, Large DAP; RoHS: Y; PinCount: 8; High-Reliability: Y; Code_JEDEC: MS-012-AA; ComponentLink1Description: Manufacturer URL; ComponentLink1URL: http://www.national.com/; ComponentLink2Description: LP38853 Datasheet; ComponentLink2URL: http://www.national.com/ds/LP/LP38853.pdf; ComponentLink3Description: LP38853 Web Page; ComponentLink3URL: http://www.national.com/pf/LP/LP38853.html; ComponentLink4Description: MRA08B Package Page; ComponentLink4URL: http://www.national.com/packaging/folders/mra08b.html
footprint MRA08B_N (SOIC, 8-Leads, Body 4.9x3.9mm, Pitch 1.27mm, Thermal Pad, IPC Medium Density)
footprint MRA08B_L (SOIC, 8-Leads, Body 4.9x3.9mm, Pitch 1.27mm, Thermal Pad, IPC High Density)
footprint MRA08B_M (SOIC, 8-Leads, Body 4.9x3.9mm, Pitch 1.27mm, Thermal Pad, IPC Low Density)
pins: 1 ADJ (in), 2 OUT (power), 3 BIAS (in), 4 GND (power), 5 SS, 6 EN (in), 7 IN (power), 8 NC, 9 DAP (power)

## LP38853MRX-ADJ
designator U?
3A Fast-Response High-Accuracy Adjustable LDO Linear Regulator with Enable and Soft-Start, 8-pin PSOP; PartNumber: LP38853MRX-ADJ; Manufacturer: National Semiconductor; PackageTopMarking: NSXYTT*L38853*MRADJ; PowerWise: Y; CompType: LDO IC; DatasheetVersion: Feb-2008; PackageVersion: revB, Dec-2007; PackageReference: MRA08B; PackageDescription: Molded, PSOP .193 x .154 x .058in, 8 Lead, .050in Pitch, Large DAP; RoHS: N; PinCount: 8; High-Reliability: Y; Code_JEDEC: MS-012-AA; ComponentLink1Description: Manufacturer URL; ComponentLink1URL: http://www.national.com/; ComponentLink2Description: LP38853 Datasheet; ComponentLink2URL: http://www.national.com/ds/LP/LP38853.pdf; ComponentLink3Description: LP38853 Web Page; ComponentLink3URL: http://www.national.com/pf/LP/LP38853.html; ComponentLink4Description: MRA08B Package Page; ComponentLink4URL: http://www.national.com/packaging/folders/mra08b.html
footprint MRA08B_N (SOIC, 8-Leads, Body 4.9x3.9mm, Pitch 1.27mm, Thermal Pad, IPC Medium Density)
footprint MRA08B_L (SOIC, 8-Leads, Body 4.9x3.9mm, Pitch 1.27mm, Thermal Pad, IPC High Density)
footprint MRA08B_M (SOIC, 8-Leads, Body 4.9x3.9mm, Pitch 1.27mm, Thermal Pad, IPC Low Density)
pins: 1 ADJ (in), 2 OUT (power), 3 BIAS (in), 4 GND (power), 5 SS, 6 EN (in), 7 IN (power), 8 NC, 9 DAP (power)

## LP38853MRX-ADJ/NOPB
designator U?
3A Fast-Response High-Accuracy Adjustable LDO Linear Regulator with Enable and Soft-Start, 8-pin PSOP, Pb-Free; PartNumber: LP38853MRX-ADJ/NOPB; Manufacturer: National Semiconductor; PackageTopMarking: NSXYTT*L38853*MRADJ; PowerWise: Y; CompType: LDO IC; DatasheetVersion: Feb-2008; PackageVersion: revB, Dec-2007; PackageReference: MRA08B; PackageDescription: Molded, PSOP .193 x .154 x .058in, 8 Lead, .050in Pitch, Large DAP; RoHS: Y; PinCount: 8; High-Reliability: Y; Code_JEDEC: MS-012-AA; ComponentLink1Description: Manufacturer URL; ComponentLink1URL: http://www.national.com/; ComponentLink2Description: LP38853 Datasheet; ComponentLink2URL: http://www.national.com/ds/LP/LP38853.pdf; ComponentLink3Description: LP38853 Web Page; ComponentLink3URL: http://www.national.com/pf/LP/LP38853.html; ComponentLink4Description: MRA08B Package Page; ComponentLink4URL: http://www.national.com/packaging/folders/mra08b.html
footprint MRA08B_N (SOIC, 8-Leads, Body 4.9x3.9mm, Pitch 1.27mm, Thermal Pad, IPC Medium Density)
footprint MRA08B_L (SOIC, 8-Leads, Body 4.9x3.9mm, Pitch 1.27mm, Thermal Pad, IPC High Density)
footprint MRA08B_M (SOIC, 8-Leads, Body 4.9x3.9mm, Pitch 1.27mm, Thermal Pad, IPC Low Density)
pins: 1 ADJ (in), 2 OUT (power), 3 BIAS (in), 4 GND (power), 5 SS, 6 EN (in), 7 IN (power), 8 NC, 9 DAP (power)

## LP38853S-ADJ
designator U?
3A Fast-Response High-Accuracy Adjustable LDO Linear Regulator with Enable and Soft-Start, 7-pin TO-263; PartNumber: LP38853S-ADJ; Manufacturer: National Semiconductor; PackageTopMarking: NSUZXYTTE#*LP38853S*ADJ; PowerWise: Y; CompType: LDO IC; DatasheetVersion: Feb-2008; PackageVersion: revE, Jul-2003; PackageReference: TS7B; PackageDescription: TO-263, Molded, .400 x .390 x .180in Body, 7 Lead, .050in Pitch, Surface Mount; RoHS: N; PinCount: 7; High-Reliability: Y; Code_JEDEC: MO-169-AC; ComponentLink1Description: Manufacturer URL; ComponentLink1URL: http://www.national.com/; ComponentLink2Description: LP38853 Datasheet; ComponentLink2URL: http://www.national.com/ds/LP/LP38853.pdf; ComponentLink3Description: LP38853 Web Page; ComponentLink3URL: http://www.national.com/pf/LP/LP38853.html; ComponentLink4Description: TS7B Package Page; ComponentLink4URL: http://www.national.com/packaging/folders/ts7b.html
footprint TS7B_N (D2-PAK, 8-Leads, Body 8.6x10.2mm, Pitch 1.27mm, Lead Span 14.1mm, IPC Medium Density)
footprint TS7B_L (D2-PAK, 8-Leads, Body 8.6x10.2mm, Pitch 1.27mm, Lead Span 14.1mm, IPC High Density)
footprint TS7B_M (D2-PAK, 8-Leads, Body 8.6x10.2mm, Pitch 1.27mm, Lead Span 14.1mm, IPC Low Density)
pins: 1 SS, 2 EN (in), 3 IN (power), 4 GND (power), 5 ADJ (in), 6 OUT (power), 7 BIAS (in), 8 TAB (power)

## LP38853S-ADJ/NOPB
designator U?
3A Fast-Response High-Accuracy Adjustable LDO Linear Regulator with Enable and Soft-Start, 7-pin TO-263, Pb-Free; PartNumber: LP38853S-ADJ/NOPB; Manufacturer: National Semiconductor; PackageTopMarking: NSUZXYTTE#*LP38853S*ADJ; PowerWise: Y; CompType: LDO IC; DatasheetVersion: Feb-2008; PackageVersion: revE, Jul-2003; PackageReference: TS7B; PackageDescription: TO-263, Molded, .400 x .390 x .180in Body, 7 Lead, .050in Pitch, Surface Mount; RoHS: Y; PinCount: 7; High-Reliability: Y; Code_JEDEC: MO-169-AC; ComponentLink1Description: Manufacturer URL; ComponentLink1URL: http://www.national.com/; ComponentLink2Description: LP38853 Datasheet; ComponentLink2URL: http://www.national.com/ds/LP/LP38853.pdf; ComponentLink3Description: LP38853 Web Page; ComponentLink3URL: http://www.national.com/pf/LP/LP38853.html; ComponentLink4Description: TS7B Package Page; ComponentLink4URL: http://www.national.com/packaging/folders/ts7b.html
footprint TS7B_N (D2-PAK, 8-Leads, Body 8.6x10.2mm, Pitch 1.27mm, Lead Span 14.1mm, IPC Medium Density)
footprint TS7B_L (D2-PAK, 8-Leads, Body 8.6x10.2mm, Pitch 1.27mm, Lead Span 14.1mm, IPC High Density)
footprint TS7B_M (D2-PAK, 8-Leads, Body 8.6x10.2mm, Pitch 1.27mm, Lead Span 14.1mm, IPC Low Density)
pins: 1 SS, 2 EN (in), 3 IN (power), 4 GND (power), 5 ADJ (in), 6 OUT (power), 7 BIAS (in), 8 TAB (power)

## LP38853SX-ADJ
designator U?
3A Fast-Response High-Accuracy Adjustable LDO Linear Regulator with Enable and Soft-Start, 7-pin TO-263; PartNumber: LP38853SX-ADJ; Manufacturer: National Semiconductor; PackageTopMarking: NSUZXYTTE#*LP38853S*ADJ; PowerWise: Y; CompType: LDO IC; DatasheetVersion: Feb-2008; PackageVersion: revE, Jul-2003; PackageReference: TS7B; PackageDescription: TO-263, Molded, .400 x .390 x .180in Body, 7 Lead, .050in Pitch, Surface Mount; RoHS: N; PinCount: 7; High-Reliability: Y; Code_JEDEC: MO-169-AC; ComponentLink1Description: Manufacturer URL; ComponentLink1URL: http://www.national.com/; ComponentLink2Description: LP38853 Datasheet; ComponentLink2URL: http://www.national.com/ds/LP/LP38853.pdf; ComponentLink3Description: LP38853 Web Page; ComponentLink3URL: http://www.national.com/pf/LP/LP38853.html; ComponentLink4Description: TS7B Package Page; ComponentLink4URL: http://www.national.com/packaging/folders/ts7b.html
footprint TS7B_N (D2-PAK, 8-Leads, Body 8.6x10.2mm, Pitch 1.27mm, Lead Span 14.1mm, IPC Medium Density)
footprint TS7B_L (D2-PAK, 8-Leads, Body 8.6x10.2mm, Pitch 1.27mm, Lead Span 14.1mm, IPC High Density)
footprint TS7B_M (D2-PAK, 8-Leads, Body 8.6x10.2mm, Pitch 1.27mm, Lead Span 14.1mm, IPC Low Density)
pins: 1 SS, 2 EN (in), 3 IN (power), 4 GND (power), 5 ADJ (in), 6 OUT (power), 7 BIAS (in), 8 TAB (power)

## LP38853SX-ADJ/NOPB
designator U?
3A Fast-Response High-Accuracy Adjustable LDO Linear Regulator with Enable and Soft-Start, 7-pin TO-263, Pb-Free; PartNumber: LP38853SX-ADJ/NOPB; Manufacturer: National Semiconductor; PackageTopMarking: NSUZXYTTE#*LP38853S*ADJ; PowerWise: Y; CompType: LDO IC; DatasheetVersion: Feb-2008; PackageVersion: revE, Jul-2003; PackageReference: TS7B; PackageDescription: TO-263, Molded, .400 x .390 x .180in Body, 7 Lead, .050in Pitch, Surface Mount; RoHS: Y; PinCount: 7; High-Reliability: Y; Code_JEDEC: MO-169-AC; ComponentLink1Description: Manufacturer URL; ComponentLink1URL: http://www.national.com/; ComponentLink2Description: LP38853 Datasheet; ComponentLink2URL: http://www.national.com/ds/LP/LP38853.pdf; ComponentLink3Description: LP38853 Web Page; ComponentLink3URL: http://www.national.com/pf/LP/LP38853.html; ComponentLink4Description: TS7B Package Page; ComponentLink4URL: http://www.national.com/packaging/folders/ts7b.html
footprint TS7B_N (D2-PAK, 8-Leads, Body 8.6x10.2mm, Pitch 1.27mm, Lead Span 14.1mm, IPC Medium Density)
footprint TS7B_L (D2-PAK, 8-Leads, Body 8.6x10.2mm, Pitch 1.27mm, Lead Span 14.1mm, IPC High Density)
footprint TS7B_M (D2-PAK, 8-Leads, Body 8.6x10.2mm, Pitch 1.27mm, Lead Span 14.1mm, IPC Low Density)
pins: 1 SS, 2 EN (in), 3 IN (power), 4 GND (power), 5 ADJ (in), 6 OUT (power), 7 BIAS (in), 8 TAB (power)

## LP38853T-ADJ
designator U?
3A Fast-Response High-Accuracy Adjustable LDO Linear Regulator with Enable and Soft-Start, 7-pin TO-220; PartNumber: LP38853T-ADJ; Manufacturer: National Semiconductor; PackageTopMarking: NSUZXYTTE#*LP38853T*ADJ; PowerWise: Y; CompType: LDO IC; DatasheetVersion: Feb-2008; PackageVersion: revC, Apr-1999; PackageReference: TA07B; PackageDescription: TO-220, Molded, .400 x .590 x .180in Body, 7 Lead, .050in Pitch, Staggered; RoHS: N; PinCount: 7; High-Reliability: Y; Code_JEDEC: TO-220-AB; ComponentLink1Description: Manufacturer URL; ComponentLink1URL: http://www.national.com/; ComponentLink2Description: LP38853 Datasheet; ComponentLink2URL: http://www.national.com/ds/LP/LP38853.pdf; ComponentLink3Description: LP38853 Web Page; ComponentLink3URL: http://www.national.com/pf/LP/LP38853.html; ComponentLink4Description: TA07B Package Page; ComponentLink4URL: http://www.national.com/packaging/folders/ta07b.html
footprint TA07B (TO, Thru-Hole, Vertical, Heatsink Mounted; 7 Bent Staggered Leads; Body 10.2x8.7x4.6mm, Pitch 1.27 mm)
pins: 1 SS, 2 EN (in), 3 IN (power), 4 GND (power), 5 ADJ (in), 6 OUT (power), 7 BIAS (in)

## LP38855S-0.8
designator U?
1.5A Fast-Response High-Accuracy LDO Linear Regulator with Enable, 5-pin TO-263; PartNumber: LP38855S-0.8; Manufacturer: National Semiconductor; PackageTopMarking: NSUZXYTTE#*LP38855S*-0.8; PowerWise: Y; CompType: LDO IC; DatasheetVersion: Dec-2006; PackageVersion: revD, Apr-2005; PackageReference: TS5B; PackageDescription: TO-263, Molded, .400 x .390 x .180in, 5 Lead, .067in Pitch, Surface Mount; RoHS: N; PinCount: 5; High-Reliability: Y; Code_JEDEC: MO-169-AB; ComponentLink1Description: Manufacturer URL; ComponentLink1URL: http://www.national.com/; ComponentLink2Description: LP38855 Datasheet; ComponentLink2URL: http://www.national.com/ds/LP/LP38855.pdf; ComponentLink3Description: LP38855 Web Page; ComponentLink3URL: http://www.national.com/pf/LP/LP38855.html; ComponentLink4Description: TS5B Package Page; ComponentLink4URL: http://www.national.com/packaging/folders/ts5b.html
footprint TS5B_N (D2-PAK, 6-Leads, Body 8.6x10.2mm, Pitch 1.7mm, Lead Span 14.1mm, IPC Medium Density)
footprint TS5B_L (D2-PAK, 6-Leads, Body 8.6x10.2mm, Pitch 1.7mm, Lead Span 14.1mm, IPC High Density)
footprint TS5B_M (D2-PAK, 6-Leads, Body 8.6x10.2mm, Pitch 1.7mm, Lead Span 14.1mm, IPC Low Density)
pins: 1 EN (in), 2 IN (power), 3 GND (power), 4 OUT (power), 5 BIAS (in), 6 TAB (power)